# EAGLE library part CINVESTAV_POLOLU1457 (library VUG)
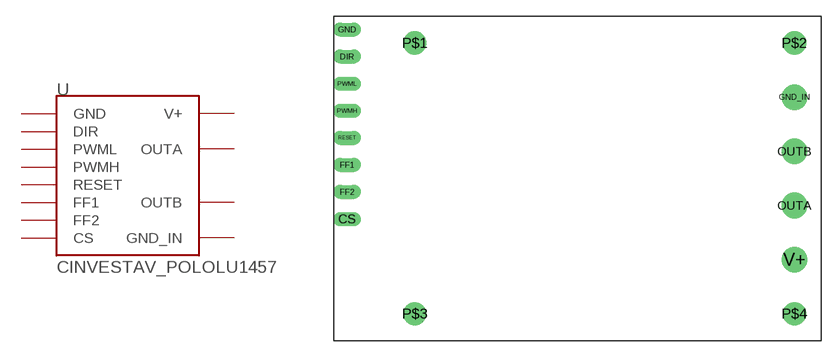
[diagram p5: symbol with the pads of CINVESTAV_1457; footprint CINVESTAV_1457]

Designator prefix -

## CINVESTAV_POLOLU1457  [CINVESTAV_1457]
CS  CS  out
DIR  DIR  in
FF1  FF1  out
FF2  FF2  out
GND  GND  pwr
GND_IN  GND_IN
OUTA  OUTA
OUTB  OUTB
PWMH  PWMH  in
PWML  PWML  in
RESET  RESET  out
V+  V+

## Footprint CINVESTAV_1457 (pad centres in mm)
drill 0.8 long: CS 1.27,11.43; DIR 1.27,26.67; FF1 1.27,16.51; FF2 1.27,13.97; GND 1.27,29.21; PWMH 1.27,21.59; PWML 1.27,24.13; RESET 1.27,19.05
drill 1.6: GND_IN 43.18,22.86; OUTA 43.18,12.7; OUTB 43.18,17.78; V+ 43.18,7.62
drill 0.8 pad 2.184: P$1 7.62,27.94; P$2 43.18,27.94; P$3 7.62,2.54; P$4 43.18,2.54